# Altium schematic symbol library EMG_DRL_Controlled.SchLib: 231 symbols (part 1 of 4)
Pins are listed as number, name and electrical type; pins without a type are passive.

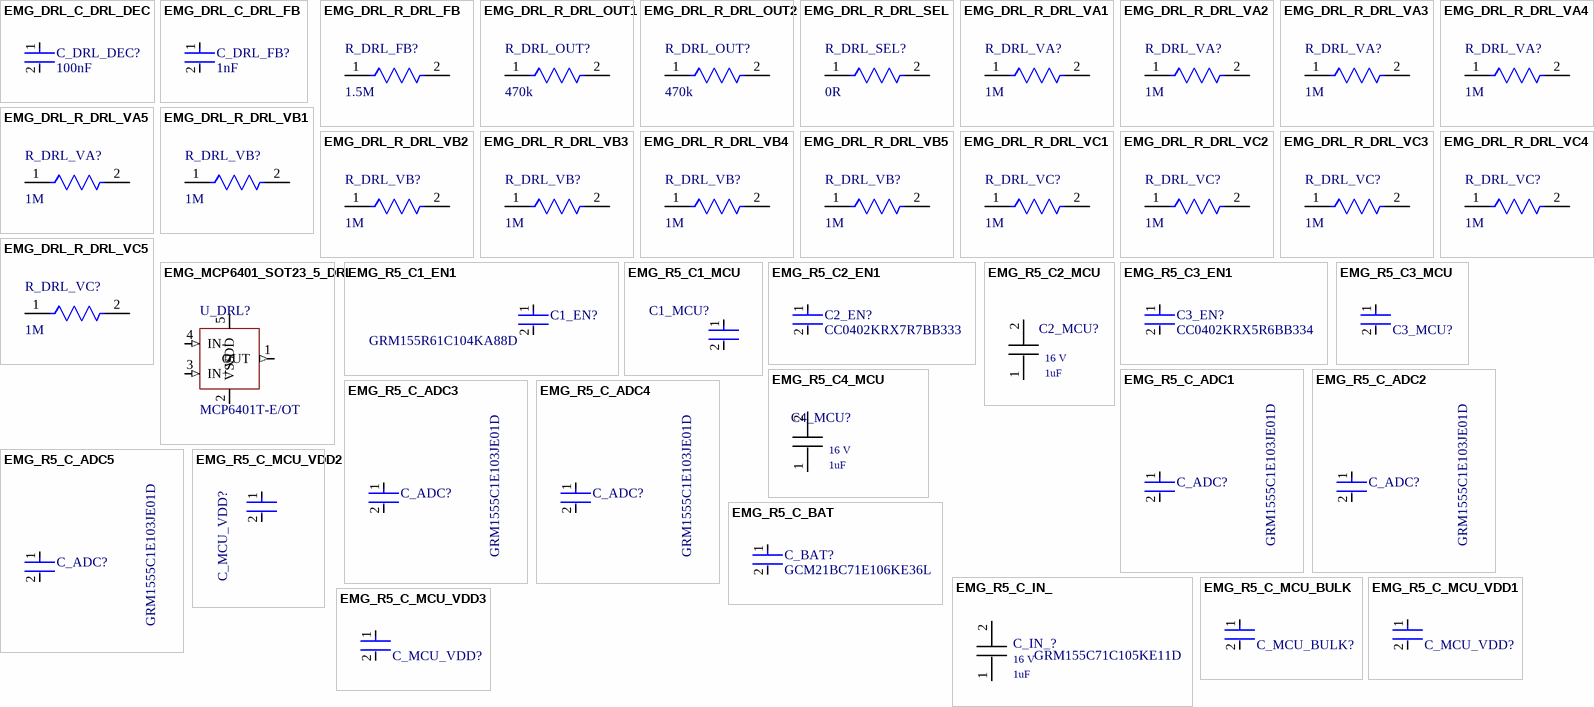
[diagram p0: symbols EMG_DRL_C_DRL_DEC to EMG_R5_C_MCU_VDD3]

## EMG_DRL_C_DRL_DEC
designator C_DRL_DEC?, comment 100nF
Optional DRL provision; not fitted in PROTO_1_REMOTE_NTC; Manufacturer: Murata Manufacturing; Manufacturer Part Number: GRM155R71C104KA88D; Population: DNP - optional DRL; Assembly Variant: PROTO_1_REMOTE_NTC: Not Fitted; Dielectric: X7R; Tolerance: 10%; Voltage Rating: 16V; Qualification: DNP prototype provision; populated loop and body-interface qualification required; Value: 100nF; Package: 0402 / 1005 metric
footprint EMG_DRL_C0402
pins: 1, 2

## EMG_DRL_C_DRL_FB
designator C_DRL_FB?, comment 1nF
Optional DRL provision; not fitted in PROTO_1_REMOTE_NTC; Manufacturer: Murata Manufacturing; Manufacturer Part Number: GRM1555C1H102JA01D; Population: DNP - optional DRL; Assembly Variant: PROTO_1_REMOTE_NTC: Not Fitted; Dielectric: C0G / NP0; Tolerance: 5%; Voltage Rating: 50V; Qualification: DNP prototype provision; populated loop and body-interface qualification required; Value: 1nF; Package: 0402 / 1005 metric
footprint EMG_DRL_C0402
pins: 1, 2

## EMG_DRL_R_DRL_FB
designator R_DRL_FB?, comment 1.5M
Optional DRL provision; not fitted in PROTO_1_REMOTE_NTC; Manufacturer: YAGEO; Manufacturer Part Number: RC0603FR-071M5L; Population: DNP - optional DRL; Assembly Variant: PROTO_1_REMOTE_NTC: Not Fitted; Tolerance: 1%; Power Rating: 0.1W at70C (resistors); Voltage Rating: 75V limiting element voltage (non-jumper); Qualification: DNP prototype provision; populated loop and body-interface qualification required; Value: 1.5M; Package: 0603 / 1608 metric
footprint EMG_DRL_R0603
pins: 1, 2

## EMG_DRL_R_DRL_OUT1
designator R_DRL_OUT?, comment 470k
Optional DRL provision; not fitted in PROTO_1_REMOTE_NTC; Manufacturer: Panasonic Industry; Manufacturer Part Number: ERJ3EKF4703V; Population: DNP - optional DRL; Assembly Variant: PROTO_1_REMOTE_NTC: Not Fitted; Tolerance: 1%; Power Rating: 0.1W at70C (resistors); Voltage Rating: 75V limiting element voltage (non-jumper); Qualification: DNP prototype provision; populated loop and body-interface qualification required; Value: 470k; Package: 0603 / 1608 metric
footprint EMG_DRL_R0603
pins: 1, 2

## EMG_DRL_R_DRL_OUT2
designator R_DRL_OUT?, comment 470k
Optional DRL provision; not fitted in PROTO_1_REMOTE_NTC; Manufacturer: Panasonic Industry; Manufacturer Part Number: ERJ3EKF4703V; Population: DNP - optional DRL; Assembly Variant: PROTO_1_REMOTE_NTC: Not Fitted; Tolerance: 1%; Power Rating: 0.1W at70C (resistors); Voltage Rating: 75V limiting element voltage (non-jumper); Qualification: DNP prototype provision; populated loop and body-interface qualification required; Value: 470k; Package: 0603 / 1608 metric
footprint EMG_DRL_R0603
pins: 1, 2

## EMG_DRL_R_DRL_SEL
designator R_DRL_SEL?, comment 0R
Optional DRL provision; not fitted in PROTO_1_REMOTE_NTC; Manufacturer: Panasonic Industry; Manufacturer Part Number: ERJ3GEY0R00V; Population: DNP - optional DRL; Assembly Variant: PROTO_1_REMOTE_NTC: Not Fitted; Tolerance: Jumper: 50mOhm maximum; Power Rating: 0.1W at70C (resistors); Voltage Rating: 75V limiting element voltage (non-jumper); Qualification: DNP prototype provision; populated loop and body-interface qualification required; Value: 0R; Package: 0603 / 1608 metric
footprint EMG_DRL_R0603
pins: 1, 2

## EMG_DRL_R_DRL_VA1
designator R_DRL_VA?, comment 1M
Optional DRL provision; not fitted in PROTO_1_REMOTE_NTC; Manufacturer: Panasonic Industry; Manufacturer Part Number: ERJ3EKF1004V; Population: DNP - optional DRL; Assembly Variant: PROTO_1_REMOTE_NTC: Not Fitted; Tolerance: 1%; Power Rating: 0.1W at70C (resistors); Voltage Rating: 75V limiting element voltage (non-jumper); Qualification: DNP prototype provision; populated loop and body-interface qualification required; Value: 1M; Package: 0603 / 1608 metric
footprint EMG_DRL_R0603
pins: 1, 2

## EMG_DRL_R_DRL_VA2
designator R_DRL_VA?, comment 1M
Optional DRL provision; not fitted in PROTO_1_REMOTE_NTC; Manufacturer: Panasonic Industry; Manufacturer Part Number: ERJ3EKF1004V; Population: DNP - optional DRL; Assembly Variant: PROTO_1_REMOTE_NTC: Not Fitted; Tolerance: 1%; Power Rating: 0.1W at70C (resistors); Voltage Rating: 75V limiting element voltage (non-jumper); Qualification: DNP prototype provision; populated loop and body-interface qualification required; Value: 1M; Package: 0603 / 1608 metric
footprint EMG_DRL_R0603
pins: 1, 2

## EMG_DRL_R_DRL_VA3
designator R_DRL_VA?, comment 1M
Optional DRL provision; not fitted in PROTO_1_REMOTE_NTC; Manufacturer: Panasonic Industry; Manufacturer Part Number: ERJ3EKF1004V; Population: DNP - optional DRL; Assembly Variant: PROTO_1_REMOTE_NTC: Not Fitted; Tolerance: 1%; Power Rating: 0.1W at70C (resistors); Voltage Rating: 75V limiting element voltage (non-jumper); Qualification: DNP prototype provision; populated loop and body-interface qualification required; Value: 1M; Package: 0603 / 1608 metric
footprint EMG_DRL_R0603
pins: 1, 2

## EMG_DRL_R_DRL_VA4
designator R_DRL_VA?, comment 1M
Optional DRL provision; not fitted in PROTO_1_REMOTE_NTC; Manufacturer: Panasonic Industry; Manufacturer Part Number: ERJ3EKF1004V; Population: DNP - optional DRL; Assembly Variant: PROTO_1_REMOTE_NTC: Not Fitted; Tolerance: 1%; Power Rating: 0.1W at70C (resistors); Voltage Rating: 75V limiting element voltage (non-jumper); Qualification: DNP prototype provision; populated loop and body-interface qualification required; Value: 1M; Package: 0603 / 1608 metric
footprint EMG_DRL_R0603
pins: 1, 2

## EMG_DRL_R_DRL_VA5
designator R_DRL_VA?, comment 1M
Optional DRL provision; not fitted in PROTO_1_REMOTE_NTC; Manufacturer: Panasonic Industry; Manufacturer Part Number: ERJ3EKF1004V; Population: DNP - optional DRL; Assembly Variant: PROTO_1_REMOTE_NTC: Not Fitted; Tolerance: 1%; Power Rating: 0.1W at70C (resistors); Voltage Rating: 75V limiting element voltage (non-jumper); Qualification: DNP prototype provision; populated loop and body-interface qualification required; Value: 1M; Package: 0603 / 1608 metric
footprint EMG_DRL_R0603
pins: 1, 2

## EMG_DRL_R_DRL_VB1
designator R_DRL_VB?, comment 1M
Optional DRL provision; not fitted in PROTO_1_REMOTE_NTC; Manufacturer: Panasonic Industry; Manufacturer Part Number: ERJ3EKF1004V; Population: DNP - optional DRL; Assembly Variant: PROTO_1_REMOTE_NTC: Not Fitted; Tolerance: 1%; Power Rating: 0.1W at70C (resistors); Voltage Rating: 75V limiting element voltage (non-jumper); Qualification: DNP prototype provision; populated loop and body-interface qualification required; Value: 1M; Package: 0603 / 1608 metric
footprint EMG_DRL_R0603
pins: 1, 2

## EMG_DRL_R_DRL_VB2
designator R_DRL_VB?, comment 1M
Optional DRL provision; not fitted in PROTO_1_REMOTE_NTC; Manufacturer: Panasonic Industry; Manufacturer Part Number: ERJ3EKF1004V; Population: DNP - optional DRL; Assembly Variant: PROTO_1_REMOTE_NTC: Not Fitted; Tolerance: 1%; Power Rating: 0.1W at70C (resistors); Voltage Rating: 75V limiting element voltage (non-jumper); Qualification: DNP prototype provision; populated loop and body-interface qualification required; Value: 1M; Package: 0603 / 1608 metric
footprint EMG_DRL_R0603
pins: 1, 2

## EMG_DRL_R_DRL_VB3
designator R_DRL_VB?, comment 1M
Optional DRL provision; not fitted in PROTO_1_REMOTE_NTC; Manufacturer: Panasonic Industry; Manufacturer Part Number: ERJ3EKF1004V; Population: DNP - optional DRL; Assembly Variant: PROTO_1_REMOTE_NTC: Not Fitted; Tolerance: 1%; Power Rating: 0.1W at70C (resistors); Voltage Rating: 75V limiting element voltage (non-jumper); Qualification: DNP prototype provision; populated loop and body-interface qualification required; Value: 1M; Package: 0603 / 1608 metric
footprint EMG_DRL_R0603
pins: 1, 2

## EMG_DRL_R_DRL_VB4
designator R_DRL_VB?, comment 1M
Optional DRL provision; not fitted in PROTO_1_REMOTE_NTC; Manufacturer: Panasonic Industry; Manufacturer Part Number: ERJ3EKF1004V; Population: DNP - optional DRL; Assembly Variant: PROTO_1_REMOTE_NTC: Not Fitted; Tolerance: 1%; Power Rating: 0.1W at70C (resistors); Voltage Rating: 75V limiting element voltage (non-jumper); Qualification: DNP prototype provision; populated loop and body-interface qualification required; Value: 1M; Package: 0603 / 1608 metric
footprint EMG_DRL_R0603
pins: 1, 2

## EMG_DRL_R_DRL_VB5
designator R_DRL_VB?, comment 1M
Optional DRL provision; not fitted in PROTO_1_REMOTE_NTC; Manufacturer: Panasonic Industry; Manufacturer Part Number: ERJ3EKF1004V; Population: DNP - optional DRL; Assembly Variant: PROTO_1_REMOTE_NTC: Not Fitted; Tolerance: 1%; Power Rating: 0.1W at70C (resistors); Voltage Rating: 75V limiting element voltage (non-jumper); Qualification: DNP prototype provision; populated loop and body-interface qualification required; Value: 1M; Package: 0603 / 1608 metric
footprint EMG_DRL_R0603
pins: 1, 2

## EMG_DRL_R_DRL_VC1
designator R_DRL_VC?, comment 1M
Optional DRL provision; not fitted in PROTO_1_REMOTE_NTC; Manufacturer: Panasonic Industry; Manufacturer Part Number: ERJ3EKF1004V; Population: DNP - optional DRL; Assembly Variant: PROTO_1_REMOTE_NTC: Not Fitted; Tolerance: 1%; Power Rating: 0.1W at70C (resistors); Voltage Rating: 75V limiting element voltage (non-jumper); Qualification: DNP prototype provision; populated loop and body-interface qualification required; Value: 1M; Package: 0603 / 1608 metric
footprint EMG_DRL_R0603
pins: 1, 2

## EMG_DRL_R_DRL_VC2
designator R_DRL_VC?, comment 1M
Optional DRL provision; not fitted in PROTO_1_REMOTE_NTC; Manufacturer: Panasonic Industry; Manufacturer Part Number: ERJ3EKF1004V; Population: DNP - optional DRL; Assembly Variant: PROTO_1_REMOTE_NTC: Not Fitted; Tolerance: 1%; Power Rating: 0.1W at70C (resistors); Voltage Rating: 75V limiting element voltage (non-jumper); Qualification: DNP prototype provision; populated loop and body-interface qualification required; Value: 1M; Package: 0603 / 1608 metric
footprint EMG_DRL_R0603
pins: 1, 2

## EMG_DRL_R_DRL_VC3
designator R_DRL_VC?, comment 1M
Optional DRL provision; not fitted in PROTO_1_REMOTE_NTC; Manufacturer: Panasonic Industry; Manufacturer Part Number: ERJ3EKF1004V; Population: DNP - optional DRL; Assembly Variant: PROTO_1_REMOTE_NTC: Not Fitted; Tolerance: 1%; Power Rating: 0.1W at70C (resistors); Voltage Rating: 75V limiting element voltage (non-jumper); Qualification: DNP prototype provision; populated loop and body-interface qualification required; Value: 1M; Package: 0603 / 1608 metric
footprint EMG_DRL_R0603
pins: 1, 2

## EMG_DRL_R_DRL_VC4
designator R_DRL_VC?, comment 1M
Optional DRL provision; not fitted in PROTO_1_REMOTE_NTC; Manufacturer: Panasonic Industry; Manufacturer Part Number: ERJ3EKF1004V; Population: DNP - optional DRL; Assembly Variant: PROTO_1_REMOTE_NTC: Not Fitted; Tolerance: 1%; Power Rating: 0.1W at70C (resistors); Voltage Rating: 75V limiting element voltage (non-jumper); Qualification: DNP prototype provision; populated loop and body-interface qualification required; Value: 1M; Package: 0603 / 1608 metric
footprint EMG_DRL_R0603
pins: 1, 2

## EMG_DRL_R_DRL_VC5
designator R_DRL_VC?, comment 1M
Optional DRL provision; not fitted in PROTO_1_REMOTE_NTC; Manufacturer: Panasonic Industry; Manufacturer Part Number: ERJ3EKF1004V; Population: DNP - optional DRL; Assembly Variant: PROTO_1_REMOTE_NTC: Not Fitted; Tolerance: 1%; Power Rating: 0.1W at70C (resistors); Voltage Rating: 75V limiting element voltage (non-jumper); Qualification: DNP prototype provision; populated loop and body-interface qualification required; Value: 1M; Package: 0603 / 1608 metric
footprint EMG_DRL_R0603
pins: 1, 2

## EMG_MCP6401_SOT23_5_DRL
designator U_DRL?, comment MCP6401T-E/OT
MCP6401 single operational amplifier, SOT-23-5; optional DRL, DNP; Manufacturer: Microchip Technology; Population: DNP - optional DRL; Assembly Variant: PROTO_1_REMOTE_NTC: Not Fitted; Manufacturer Part Number: MCP6401T-E/OT; Package: SOT-23-5 / OT
footprint EMG_MCP6401_SOT23_5
pins: 1 OUT (out), 2 VSS (power), 3 IN+ (in), 4 IN- (in), 5 VDD (power)

## EMG_R5_C1_EN1
designator C1_EN?, comment GRM155R61C104KA88D
CAP CER 0.1UF 16V X5R 0402; Tolerance: 10%; Capacitance: 100nF; Controlled Revision: R5 2026-09-16; project-local frozen symbol/footprint; Size: 0.5mm; Case Code (Imperial): 0402; Voltage: 16V; REACH SVHC: No SVHC; Packaging: Tape and Reel; Case/Package: 0402; Package Quantity: 1; Max Operating Temperature: 85°C; Voltage Rating (DC): 16V; Min Operating Temperature: -55°C; Construction: Flat; Mount: Surface Mount; Voltage Rating: 16V; Thickness: 0.022inch; Depth: 0.5mm; Termination: SMD/SMT; Length: 1mm; Height: 0.5mm; Series: GRM; Radiation Hardening: No; Width: 0.02inch; RoHS Compliant: Yes; Lead Free: Lead Free; Case Code (Metric): 1005; Dielectric: X5R
footprint FP-GRM155-0_05-IPC_C
pins: 1, 2

## EMG_R5_C1_MCU
designator C1_MCU?, comment GRM155R61C104KA88D  (value not drawn)
CAP CER 0.1UF 16V X5R 0402; Tolerance: 10%; Capacitance: 100nF; Controlled Revision: R5 2026-09-16; project-local frozen symbol/footprint; Size: 0.5mm; Case Code (Imperial): 0402; Voltage: 16V; REACH SVHC: No SVHC; Packaging: Tape and Reel; Case/Package: 0402; Package Quantity: 1; Max Operating Temperature: 85°C; Voltage Rating (DC): 16V; Min Operating Temperature: -55°C; Construction: Flat; Mount: Surface Mount; Voltage Rating: 16V; Thickness: 0.022inch; Depth: 0.5mm; Termination: SMD/SMT; Length: 1mm; Height: 0.5mm; Series: GRM; Radiation Hardening: No; Width: 0.02inch; RoHS Compliant: Yes; Lead Free: Lead Free; Case Code (Metric): 1005; Dielectric: X5R
footprint FP-GRM155-0_05-IPC_C
pins: 1, 2

## EMG_R5_C2_EN1
designator C2_EN?, comment CC0402KRX7R7BB333
CAP CER 0.033UF 16V X7R 0402; Manufacturer: YAGEO; Temperature Coefficient: 30ppm/°C; Material: Ceramic; Capacitance: 33 nF; Tolerance: 0.1; Value: 33 nF; Automotive Grade: NA; Controlled Revision: R5 2026-09-16; project-local frozen symbol/footprint; Height: 0.55mm; Footprint Url: http://www.yageo.com/exep/pages/download/literatures/UPY-C_GEN_24.pdf; Voltage Rating: 16 V; ComponentLink2URL: http://www.yageo.com/documents/recent/UPY-GP_NP0_16V-to-50V_16.pdf; Temperature Characteristic: X7R; Temperature Range High: +125°C; Package: CC0402; Digikey Description: CAP CER 0.033UF 16V X7R 0402; Device Class L3: Ceramic Capacitors; Device Class L1: Passive Components; Mouser Description: Multilayer Ceramic Capacitors MLCC - SMD/SMT 33nF 16V X7R 10%; Manufacturer Part Number: CC0402KRX7R7BB333; RoHS: TRUE; Octopart: https://octopart.com/cc0402krx7r7bb333-yageo-9289202; Temperature Range Low: -55°C; Temperature: -55°C to +125°C; Device Class L2: Capacitors; Category: Cap; Lead Free: Yes; Automotive: No; ComponentLink2Description: Datasheet; Ipc Land Pattern Name: CAPC10050X50
footprint FP-CC0402-MFG
pins: 1, 2

## EMG_R5_C2_MCU
designator C2_MCU?, comment MURATA_GRM155C71C105KE11D  (value not drawn)
Murata GRM155C71C105KE11D: 1 uF 16 V X7S +/-10%, 0402/1005 metric; Value: 1 uF; Controlled Revision: R5 2026-09-16; project-local frozen symbol/footprint; Voltage Rating: 16 V; SnapEDA_Link: https://www.snapeda.com/parts/GRM155C71C105KE11D/Murata/view-part/?ref=snap; Package: 0402 / 1005 metric; MF: Murata; MP: GRM155C71C105KE11D; Check_prices: https://www.snapeda.com/parts/GRM155C71C105KE11D/Murata/view-part/?ref=eda; Manufacturer: Murata; Manufacturer Part Number: GRM155C71C105KE11D; Capacitance: 1 uF; Dielectric: X7S; Tolerance: +/-10%
footprint *MURATA_GRM155C71C105KE11D_0
pins: 1, 2
text: 1uF

## EMG_R5_C3_EN1
designator C3_EN?, comment CC0402KRX5R6BB334
CAP CER 0.33UF 10V X5R 0402; Manufacturer: YAGEO; Automotive Grade: NA; Value: 330 nF; Temperature Coefficient: 30ppm/°C; Material: Ceramic; Tolerance: 0.1; Controlled Revision: R5 2026-09-16; project-local frozen symbol/footprint; ComponentLink2URL: http://www.yageo.com/documents/recent/UPY-GP_NP0_16V-to-50V_16.pdf; Device Class L2: Capacitors; Voltage Rating: 10 V; ComponentLink2Description: Datasheet; Package: CC0402; Device Class L3: Ceramic Capacitors; Digikey Description: CAP CER 0.33UF 10V X5R 0402; Device Class L1: Passive Components; Footprint Url: http://www.yageo.com/exep/pages/download/literatures/UPY-C_GEN_24.pdf; Temperature Characteristic: X5R; Octopart: https://octopart.com/cc0402krx5r6bb334-yageo-21548561; Automotive: No; Temperature: -55°C to +125°C; Lead Free: Yes; Temperature Range Low: -55°C; Height: 0.55mm; Ipc Land Pattern Name: CAPC10050X50; Category: Cap; Capacitance: 330 nF; Manufacturer Part Number: CC0402KRX5R6BB334; RoHS: TRUE; Mouser Description: 0402 330 nF 10 V ±10 % Tolerance X5R SMT Multilayer Ceramic Capacitor; Temperature Range High: +125°C
footprint FP-CC0402-MFG
pins: 1, 2

## EMG_R5_C3_MCU
designator C3_MCU?, comment GRM155R61C104KA88D  (value not drawn)
CAP CER 0.1UF 16V X5R 0402; Tolerance: 10%; Capacitance: 100nF; Controlled Revision: R5 2026-09-16; project-local frozen symbol/footprint; Size: 0.5mm; Case Code (Imperial): 0402; Voltage: 16V; REACH SVHC: No SVHC; Packaging: Tape and Reel; Case/Package: 0402; Package Quantity: 1; Max Operating Temperature: 85°C; Voltage Rating (DC): 16V; Min Operating Temperature: -55°C; Construction: Flat; Mount: Surface Mount; Voltage Rating: 16V; Thickness: 0.022inch; Depth: 0.5mm; Termination: SMD/SMT; Length: 1mm; Height: 0.5mm; Series: GRM; Radiation Hardening: No; Width: 0.02inch; RoHS Compliant: Yes; Lead Free: Lead Free; Case Code (Metric): 1005; Dielectric: X5R
footprint FP-GRM155-0_05-IPC_C
pins: 1, 2

## EMG_R5_C4_MCU
designator C4_MCU?, comment MURATA_GRM155C71C105KE11D  (value not drawn)
Murata GRM155C71C105KE11D: 1 uF 16 V X7S +/-10%, 0402/1005 metric; Value: 1 uF; Controlled Revision: R5 2026-09-16; project-local frozen symbol/footprint; Voltage Rating: 16 V; SnapEDA_Link: https://www.snapeda.com/parts/GRM155C71C105KE11D/Murata/view-part/?ref=snap; Package: 0402 / 1005 metric; MF: Murata; MP: GRM155C71C105KE11D; Check_prices: https://www.snapeda.com/parts/GRM155C71C105KE11D/Murata/view-part/?ref=eda; Manufacturer: Murata; Manufacturer Part Number: GRM155C71C105KE11D; Capacitance: 1 uF; Dielectric: X7S; Tolerance: +/-10%
footprint *MURATA_GRM155C71C105KE11D_0
pins: 1, 2
text: 1uF

## EMG_R5_C_ADC1
designator C_ADC?, comment GRM1555C1E103JE01D
Chip Multilayer Ceramic Capacitors for General Purpose, 0402, 10000pF, C0G, 30ppm/°C, 5%, 25V; Controlled Revision: R5 2026-09-16; project-local frozen symbol/footprint
footprint FP-GRM155-0_15-IPC_A
pins: 1, 2

## EMG_R5_C_ADC2
designator C_ADC?, comment GRM1555C1E103JE01D
Chip Multilayer Ceramic Capacitors for General Purpose, 0402, 10000pF, C0G, 30ppm/°C, 5%, 25V; Controlled Revision: R5 2026-09-16; project-local frozen symbol/footprint
footprint FP-GRM155-0_15-IPC_A
pins: 1, 2

## EMG_R5_C_ADC3
designator C_ADC?, comment GRM1555C1E103JE01D
Chip Multilayer Ceramic Capacitors for General Purpose, 0402, 10000pF, C0G, 30ppm/°C, 5%, 25V; Controlled Revision: R5 2026-09-16; project-local frozen symbol/footprint
footprint FP-GRM155-0_15-IPC_A
pins: 1, 2

## EMG_R5_C_ADC4
designator C_ADC?, comment GRM1555C1E103JE01D
Chip Multilayer Ceramic Capacitors for General Purpose, 0402, 10000pF, C0G, 30ppm/°C, 5%, 25V; Controlled Revision: R5 2026-09-16; project-local frozen symbol/footprint
footprint FP-GRM155-0_15-IPC_A
pins: 1, 2

## EMG_R5_C_ADC5
designator C_ADC?, comment GRM1555C1E103JE01D
Chip Multilayer Ceramic Capacitors for General Purpose, 0402, 10000pF, C0G, 30ppm/°C, 5%, 25V; Controlled Revision: R5 2026-09-16; project-local frozen symbol/footprint
footprint FP-GRM155-0_15-IPC_A
pins: 1, 2

## EMG_R5_C_BAT
designator C_BAT?, comment GCM21BC71E106KE36L
10 µF ±10% 25V Ceramic Capacitor X7S 0805 (2012 Metric); Controlled Revision: R5 2026-09-16; project-local frozen symbol/footprint
footprint FP-GCM21B-0_2-e0_2_0_7-MFG
pins: 1, 2

## EMG_R5_C_IN_
designator C_IN_?, comment GRM155C71C105KE11D
Murata GRM155C71C105KE11D: 1 uF 16 V X7S +/-10%, 0402/1005 metric; Value: 1 uF; Controlled Revision: R5 2026-09-16; project-local frozen symbol/footprint; Voltage Rating: 16 V; SnapEDA_Link: https://www.snapeda.com/parts/GRM155C71C105KE11D/Murata/view-part/?ref=snap; Package: 0402 / 1005 metric; MF: Murata; MP: GRM155C71C105KE11D; Check_prices: https://www.snapeda.com/parts/GRM155C71C105KE11D/Murata/view-part/?ref=eda; Manufacturer: Murata; Manufacturer Part Number: GRM155C71C105KE11D; Capacitance: 1 uF; Dielectric: X7S; Tolerance: +/-10%
footprint *MURATA_GRM155C71C105KE11D_0
pins: 1, 2
text: 1uF

## EMG_R5_C_MCU_BULK
designator C_MCU_BULK?, comment GCM21BC71E106KE36L  (value not drawn)
10 µF ±10% 25V Ceramic Capacitor X7S 0805 (2012 Metric); Controlled Revision: R5 2026-09-16; project-local frozen symbol/footprint
footprint FP-GCM21B-0_2-e0_2_0_7-MFG
pins: 1, 2

## EMG_R5_C_MCU_VDD1
designator C_MCU_VDD?, comment GRM155R61C104KA88D  (value not drawn)
CAP CER 0.1UF 16V X5R 0402; Tolerance: 10%; Capacitance: 100nF; Controlled Revision: R5 2026-09-16; project-local frozen symbol/footprint; Size: 0.5mm; Case Code (Imperial): 0402; Voltage: 16V; REACH SVHC: No SVHC; Packaging: Tape and Reel; Case/Package: 0402; Package Quantity: 1; Max Operating Temperature: 85°C; Voltage Rating (DC): 16V; Min Operating Temperature: -55°C; Construction: Flat; Mount: Surface Mount; Voltage Rating: 16V; Thickness: 0.022inch; Depth: 0.5mm; Termination: SMD/SMT; Length: 1mm; Height: 0.5mm; Series: GRM; Radiation Hardening: No; Width: 0.02inch; RoHS Compliant: Yes; Lead Free: Lead Free; Case Code (Metric): 1005; Dielectric: X5R
footprint FP-GRM155-0_05-IPC_C
pins: 1, 2

## EMG_R5_C_MCU_VDD2
designator C_MCU_VDD?, comment GRM155R61C104KA88D  (value not drawn)
CAP CER 0.1UF 16V X5R 0402; Tolerance: 10%; Capacitance: 100nF; Controlled Revision: R5 2026-09-16; project-local frozen symbol/footprint; Size: 0.5mm; Case Code (Imperial): 0402; Voltage: 16V; REACH SVHC: No SVHC; Packaging: Tape and Reel; Case/Package: 0402; Package Quantity: 1; Max Operating Temperature: 85°C; Voltage Rating (DC): 16V; Min Operating Temperature: -55°C; Construction: Flat; Mount: Surface Mount; Voltage Rating: 16V; Thickness: 0.022inch; Depth: 0.5mm; Termination: SMD/SMT; Length: 1mm; Height: 0.5mm; Series: GRM; Radiation Hardening: No; Width: 0.02inch; RoHS Compliant: Yes; Lead Free: Lead Free; Case Code (Metric): 1005; Dielectric: X5R
footprint FP-GRM155-0_05-IPC_C
pins: 1, 2

## EMG_R5_C_MCU_VDD3
designator C_MCU_VDD?, comment GRM155R61C104KA88D  (value not drawn)
CAP CER 0.1UF 16V X5R 0402; Tolerance: 10%; Capacitance: 100nF; Controlled Revision: R5 2026-09-16; project-local frozen symbol/footprint; Size: 0.5mm; Case Code (Imperial): 0402; Voltage: 16V; REACH SVHC: No SVHC; Packaging: Tape and Reel; Case/Package: 0402; Package Quantity: 1; Max Operating Temperature: 85°C; Voltage Rating (DC): 16V; Min Operating Temperature: -55°C; Construction: Flat; Mount: Surface Mount; Voltage Rating: 16V; Thickness: 0.022inch; Depth: 0.5mm; Termination: SMD/SMT; Length: 1mm; Height: 0.5mm; Series: GRM; Radiation Hardening: No; Width: 0.02inch; RoHS Compliant: Yes; Lead Free: Lead Free; Case Code (Metric): 1005; Dielectric: X5R
footprint FP-GRM155-0_05-IPC_C
pins: 1, 2

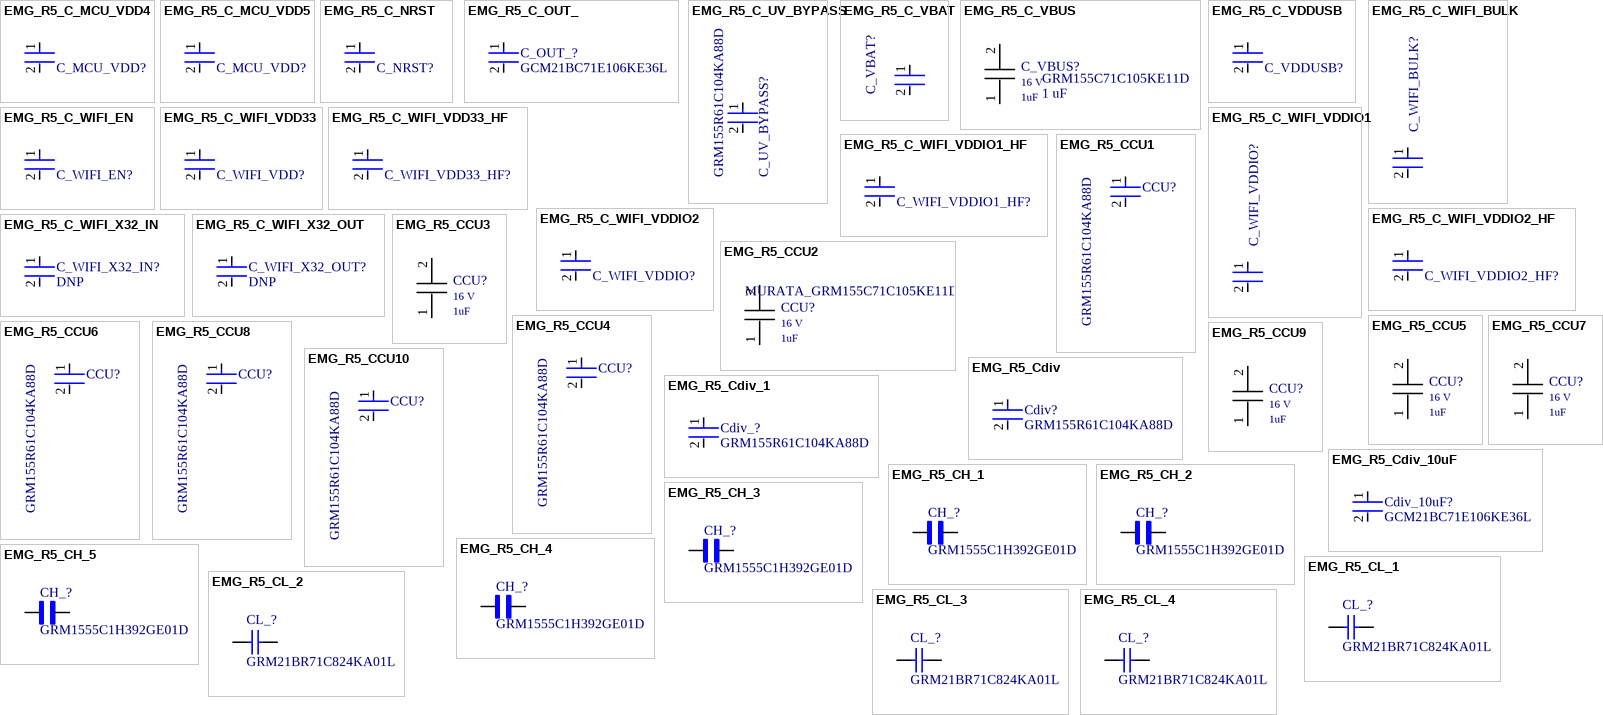
[diagram p1: symbols EMG_R5_C_MCU_VDD4 to EMG_R5_CL_4]

## EMG_R5_C_MCU_VDD4
designator C_MCU_VDD?, comment GRM155R61C104KA88D  (value not drawn)
CAP CER 0.1UF 16V X5R 0402; Tolerance: 10%; Capacitance: 100nF; Controlled Revision: R5 2026-09-16; project-local frozen symbol/footprint; Size: 0.5mm; Case Code (Imperial): 0402; Voltage: 16V; REACH SVHC: No SVHC; Packaging: Tape and Reel; Case/Package: 0402; Package Quantity: 1; Max Operating Temperature: 85°C; Voltage Rating (DC): 16V; Min Operating Temperature: -55°C; Construction: Flat; Mount: Surface Mount; Voltage Rating: 16V; Thickness: 0.022inch; Depth: 0.5mm; Termination: SMD/SMT; Length: 1mm; Height: 0.5mm; Series: GRM; Radiation Hardening: No; Width: 0.02inch; RoHS Compliant: Yes; Lead Free: Lead Free; Case Code (Metric): 1005; Dielectric: X5R
footprint FP-GRM155-0_05-IPC_C
pins: 1, 2

## EMG_R5_C_MCU_VDD5
designator C_MCU_VDD?, comment GRM155R61C104KA88D  (value not drawn)
CAP CER 0.1UF 16V X5R 0402; Tolerance: 10%; Capacitance: 100nF; Controlled Revision: R5 2026-09-16; project-local frozen symbol/footprint; Size: 0.5mm; Case Code (Imperial): 0402; Voltage: 16V; REACH SVHC: No SVHC; Packaging: Tape and Reel; Case/Package: 0402; Package Quantity: 1; Max Operating Temperature: 85°C; Voltage Rating (DC): 16V; Min Operating Temperature: -55°C; Construction: Flat; Mount: Surface Mount; Voltage Rating: 16V; Thickness: 0.022inch; Depth: 0.5mm; Termination: SMD/SMT; Length: 1mm; Height: 0.5mm; Series: GRM; Radiation Hardening: No; Width: 0.02inch; RoHS Compliant: Yes; Lead Free: Lead Free; Case Code (Metric): 1005; Dielectric: X5R
footprint FP-GRM155-0_05-IPC_C
pins: 1, 2

## EMG_R5_C_NRST
designator C_NRST?, comment GRM155R61C104KA88D  (value not drawn)
CAP CER 0.1UF 16V X5R 0402; Tolerance: 10%; Capacitance: 100nF; Controlled Revision: R5 2026-09-16; project-local frozen symbol/footprint; Size: 0.5mm; Case Code (Imperial): 0402; Voltage: 16V; REACH SVHC: No SVHC; Packaging: Tape and Reel; Case/Package: 0402; Package Quantity: 1; Max Operating Temperature: 85°C; Voltage Rating (DC): 16V; Min Operating Temperature: -55°C; Construction: Flat; Mount: Surface Mount; Voltage Rating: 16V; Thickness: 0.022inch; Depth: 0.5mm; Termination: SMD/SMT; Length: 1mm; Height: 0.5mm; Series: GRM; Radiation Hardening: No; Width: 0.02inch; RoHS Compliant: Yes; Lead Free: Lead Free; Case Code (Metric): 1005; Dielectric: X5R
footprint FP-GRM155-0_05-IPC_C
pins: 1, 2

## EMG_R5_C_OUT_
designator C_OUT_?, comment GCM21BC71E106KE36L
10 µF ±10% 25V Ceramic Capacitor X7S 0805 (2012 Metric); Controlled Revision: R5 2026-09-16; project-local frozen symbol/footprint
footprint FP-GCM21B-0_2-e0_2_0_7-MFG
pins: 1, 2

## EMG_R5_C_UV_BYPASS
designator C_UV_BYPASS?, comment GRM155R61C104KA88D
CAP CER 0.1UF 16V X5R 0402; Tolerance: 10%; Capacitance: 100nF; Controlled Revision: R5 2026-09-16; project-local frozen symbol/footprint; Size: 0.5mm; Case Code (Imperial): 0402; Voltage: 16V; REACH SVHC: No SVHC; Packaging: Tape and Reel; Case/Package: 0402; Package Quantity: 1; Max Operating Temperature: 85°C; Voltage Rating (DC): 16V; Min Operating Temperature: -55°C; Construction: Flat; Mount: Surface Mount; Voltage Rating: 16V; Thickness: 0.022inch; Depth: 0.5mm; Termination: SMD/SMT; Length: 1mm; Height: 0.5mm; Series: GRM; Radiation Hardening: No; Width: 0.02inch; RoHS Compliant: Yes; Lead Free: Lead Free; Case Code (Metric): 1005; Dielectric: X5R
footprint FP-GRM155-0_05-IPC_C
pins: 1, 2

## EMG_R5_C_VBAT
designator C_VBAT?, comment GRM155R61C104KA88D  (value not drawn)
CAP CER 0.1UF 16V X5R 0402; Tolerance: 10%; Capacitance: 100nF; Controlled Revision: R5 2026-09-16; project-local frozen symbol/footprint; Size: 0.5mm; Case Code (Imperial): 0402; Voltage: 16V; REACH SVHC: No SVHC; Packaging: Tape and Reel; Case/Package: 0402; Package Quantity: 1; Max Operating Temperature: 85°C; Voltage Rating (DC): 16V; Min Operating Temperature: -55°C; Construction: Flat; Mount: Surface Mount; Voltage Rating: 16V; Thickness: 0.022inch; Depth: 0.5mm; Termination: SMD/SMT; Length: 1mm; Height: 0.5mm; Series: GRM; Radiation Hardening: No; Width: 0.02inch; RoHS Compliant: Yes; Lead Free: Lead Free; Case Code (Metric): 1005; Dielectric: X5R
footprint FP-GRM155-0_05-IPC_C
pins: 1, 2

## EMG_R5_C_VBUS
designator C_VBUS?, comment GRM155C71C105KE11D  value 1 uF
Murata GRM155C71C105KE11D: 1 uF 16 V X7S +/-10%, 0402/1005 metric; Controlled Revision: R5 2026-09-16; project-local frozen symbol/footprint; Voltage Rating: 16 V; SnapEDA_Link: https://www.snapeda.com/parts/GRM155C71C105KE11D/Murata/view-part/?ref=snap; Package: 0402 / 1005 metric; MF: Murata; MP: GRM155C71C105KE11D; Check_prices: https://www.snapeda.com/parts/GRM155C71C105KE11D/Murata/view-part/?ref=eda; Manufacturer: Murata; Manufacturer Part Number: GRM155C71C105KE11D; Capacitance: 1 uF; Dielectric: X7S; Tolerance: +/-10%
footprint *MURATA_GRM155C71C105KE11D_0
pins: 1, 2
text: 1uF

## EMG_R5_C_VDDUSB
designator C_VDDUSB?, comment GRM155R61C104KA88D  (value not drawn)
CAP CER 0.1UF 16V X5R 0402; Tolerance: 10%; Capacitance: 100nF; Controlled Revision: R5 2026-09-16; project-local frozen symbol/footprint; Size: 0.5mm; Case Code (Imperial): 0402; Voltage: 16V; REACH SVHC: No SVHC; Packaging: Tape and Reel; Case/Package: 0402; Package Quantity: 1; Max Operating Temperature: 85°C; Voltage Rating (DC): 16V; Min Operating Temperature: -55°C; Construction: Flat; Mount: Surface Mount; Voltage Rating: 16V; Thickness: 0.022inch; Depth: 0.5mm; Termination: SMD/SMT; Length: 1mm; Height: 0.5mm; Series: GRM; Radiation Hardening: No; Width: 0.02inch; RoHS Compliant: Yes; Lead Free: Lead Free; Case Code (Metric): 1005; Dielectric: X5R
footprint FP-GRM155-0_05-IPC_C
pins: 1, 2

## EMG_R5_C_WIFI_BULK
designator C_WIFI_BULK?, comment GRM219R60J476ME44D  (value not drawn)
Chip Multilayer Ceramic Capacitors for General Purpose, 0805, 47uF, X5R, 15%, 20%, 6.3V; Assembly PROTO_1: Not Fitted; Release Note: Optional 47 uF radio bulk; retained footprint, initial prototype DNP; Controlled Revision: R5 2026-09-16; project-local frozen symbol/footprint; Assembly PROTO_1_REMOTE_NTC: Not Fitted; Case Code (Metric): 2012; Voltage Rating: 6.3V; Case Code (Imperial): 0805; Max Operating Temperature: 85°C; Width: 0.049inch; Length: 0.079inch; Min Operating Temperature: -55°C; Mount: Surface Mount; Packaging: Tape and Reel; Case/Package: 0805; Thickness: 0.037inch; Capacitance: 47uF; Tolerance: 20%
footprint FP-GRM219-0_2-0_1-IPC_A
pins: 1, 2

## EMG_R5_C_WIFI_EN
designator C_WIFI_EN?, comment GRM155R61C104KA88D  (value not drawn)
CAP CER 0.1UF 16V X5R 0402; Tolerance: 10%; Capacitance: 100nF; Controlled Revision: R5 2026-09-16; project-local frozen symbol/footprint; Size: 0.5mm; Case Code (Imperial): 0402; Voltage: 16V; REACH SVHC: No SVHC; Packaging: Tape and Reel; Case/Package: 0402; Package Quantity: 1; Max Operating Temperature: 85°C; Voltage Rating (DC): 16V; Min Operating Temperature: -55°C; Construction: Flat; Mount: Surface Mount; Voltage Rating: 16V; Thickness: 0.022inch; Depth: 0.5mm; Termination: SMD/SMT; Length: 1mm; Height: 0.5mm; Series: GRM; Radiation Hardening: No; Width: 0.02inch; RoHS Compliant: Yes; Lead Free: Lead Free; Case Code (Metric): 1005; Dielectric: X5R
footprint FP-GRM155-0_05-IPC_C
pins: 1, 2

## EMG_R5_C_WIFI_VDD33
designator C_WIFI_VDD?, comment GCM21BC71E106KE36L  (value not drawn)
10 µF ±10% 25V Ceramic Capacitor X7S 0805 (2012 Metric); Controlled Revision: R5 2026-09-16; project-local frozen symbol/footprint
footprint FP-GCM21B-0_2-e0_2_0_7-MFG
pins: 1, 2

## EMG_R5_C_WIFI_VDD33_HF
designator C_WIFI_VDD33_HF?, comment GRM155R61C104KA88D  (value not drawn)
CAP CER 0.1UF 16V X5R 0402; Tolerance: 10%; Capacitance: 100nF; Controlled Revision: R5 2026-09-16; project-local frozen symbol/footprint; Size: 0.5mm; Case Code (Imperial): 0402; Voltage: 16V; REACH SVHC: No SVHC; Packaging: Tape and Reel; Case/Package: 0402; Package Quantity: 1; Max Operating Temperature: 85°C; Voltage Rating (DC): 16V; Min Operating Temperature: -55°C; Construction: Flat; Mount: Surface Mount; Voltage Rating: 16V; Thickness: 0.022inch; Depth: 0.5mm; Termination: SMD/SMT; Length: 1mm; Height: 0.5mm; Series: GRM; Radiation Hardening: No; Width: 0.02inch; RoHS Compliant: Yes; Lead Free: Lead Free; Case Code (Metric): 1005; Dielectric: X5R
footprint FP-GRM155-0_05-MFG
pins: 1, 2

## EMG_R5_C_WIFI_VDDIO1
designator C_WIFI_VDDIO?, comment GCM21BC71E106KE36L  (value not drawn)
10 µF ±10% 25V Ceramic Capacitor X7S 0805 (2012 Metric); Controlled Revision: R5 2026-09-16; project-local frozen symbol/footprint
footprint FP-GCM21B-0_2-e0_2_0_7-MFG
pins: 1, 2

## EMG_R5_C_WIFI_VDDIO1_HF
designator C_WIFI_VDDIO1_HF?, comment GRM155R61C104KA88D  (value not drawn)
CAP CER 0.1UF 16V X5R 0402; Tolerance: 10%; Capacitance: 100nF; Controlled Revision: R5 2026-09-16; project-local frozen symbol/footprint; Size: 0.5mm; Case Code (Imperial): 0402; Voltage: 16V; REACH SVHC: No SVHC; Packaging: Tape and Reel; Case/Package: 0402; Package Quantity: 1; Max Operating Temperature: 85°C; Voltage Rating (DC): 16V; Min Operating Temperature: -55°C; Construction: Flat; Mount: Surface Mount; Voltage Rating: 16V; Thickness: 0.022inch; Depth: 0.5mm; Termination: SMD/SMT; Length: 1mm; Height: 0.5mm; Series: GRM; Radiation Hardening: No; Width: 0.02inch; RoHS Compliant: Yes; Lead Free: Lead Free; Case Code (Metric): 1005; Dielectric: X5R
footprint FP-GRM155-0_05-MFG
pins: 1, 2

## EMG_R5_C_WIFI_VDDIO2
designator C_WIFI_VDDIO?, comment GCM21BC71E106KE36L  (value not drawn)
10 µF ±10% 25V Ceramic Capacitor X7S 0805 (2012 Metric); Controlled Revision: R5 2026-09-16; project-local frozen symbol/footprint
footprint FP-GCM21B-0_2-e0_2_0_7-MFG
pins: 1, 2

## EMG_R5_C_WIFI_VDDIO2_HF
designator C_WIFI_VDDIO2_HF?, comment GRM155R61C104KA88D  (value not drawn)
CAP CER 0.1UF 16V X5R 0402; Tolerance: 10%; Capacitance: 100nF; Controlled Revision: R5 2026-09-16; project-local frozen symbol/footprint; Size: 0.5mm; Case Code (Imperial): 0402; Voltage: 16V; REACH SVHC: No SVHC; Packaging: Tape and Reel; Case/Package: 0402; Package Quantity: 1; Max Operating Temperature: 85°C; Voltage Rating (DC): 16V; Min Operating Temperature: -55°C; Construction: Flat; Mount: Surface Mount; Voltage Rating: 16V; Thickness: 0.022inch; Depth: 0.5mm; Termination: SMD/SMT; Length: 1mm; Height: 0.5mm; Series: GRM; Radiation Hardening: No; Width: 0.02inch; RoHS Compliant: Yes; Lead Free: Lead Free; Case Code (Metric): 1005; Dielectric: X5R
footprint FP-GRM155-0_05-MFG
pins: 1, 2

## EMG_R5_C_WIFI_X32_IN
designator C_WIFI_X32_IN?, comment DNP
DNP - 32 kHz crystal tuning capacitor; no fitted value or MPN; retain 0402 footprint; Value: DNP - tuning; Assembly PROTO_1: Not Fitted; Release Note: No fitted capacitance or MPN. Qualify pF tuning if required; never fit copied 100 nF.; Controlled Revision: R5 2026-09-16; project-local frozen symbol/footprint; Assembly PROTO_1_REMOTE_NTC: Not Fitted; Package: 0402 / 1005 metric
footprint FP-GRM155-0_05-IPC_C
pins: 1, 2

## EMG_R5_C_WIFI_X32_OUT
designator C_WIFI_X32_OUT?, comment DNP
DNP - 32 kHz crystal tuning capacitor; no fitted value or MPN; retain 0402 footprint; Value: DNP - tuning; Assembly PROTO_1: Not Fitted; Release Note: No fitted capacitance or MPN. Qualify pF tuning if required; never fit copied 100 nF.; Controlled Revision: R5 2026-09-16; project-local frozen symbol/footprint; Assembly PROTO_1_REMOTE_NTC: Not Fitted; Package: 0402 / 1005 metric
footprint FP-GRM155-0_05-IPC_C
pins: 1, 2

## EMG_R5_CCU1
designator CCU?, comment GRM155R61C104KA88D
CAP CER 0.1UF 16V X5R 0402; Tolerance: 10%; Capacitance: 100nF; Controlled Revision: R5 2026-09-16; project-local frozen symbol/footprint; Size: 0.5mm; Case Code (Imperial): 0402; Voltage: 16V; REACH SVHC: No SVHC; Packaging: Tape and Reel; Case/Package: 0402; Package Quantity: 1; Max Operating Temperature: 85°C; Voltage Rating (DC): 16V; Min Operating Temperature: -55°C; Construction: Flat; Mount: Surface Mount; Voltage Rating: 16V; Thickness: 0.022inch; Depth: 0.5mm; Termination: SMD/SMT; Length: 1mm; Height: 0.5mm; Series: GRM; Radiation Hardening: No; Width: 0.02inch; RoHS Compliant: Yes; Lead Free: Lead Free; Case Code (Metric): 1005; Dielectric: X5R
footprint FP-GRM155-0_05-IPC_C
pins: 1, 2

## EMG_R5_CCU2
designator CCU?, comment MURATA_GRM155C71C105KE11D
Murata GRM155C71C105KE11D: 1 uF 16 V X7S +/-10%, 0402/1005 metric; Value: 1 uF; Controlled Revision: R5 2026-09-16; project-local frozen symbol/footprint; Voltage Rating: 16 V; SnapEDA_Link: https://www.snapeda.com/parts/GRM155C71C105KE11D/Murata/view-part/?ref=snap; Package: 0402 / 1005 metric; MF: Murata; MP: GRM155C71C105KE11D; Check_prices: https://www.snapeda.com/parts/GRM155C71C105KE11D/Murata/view-part/?ref=eda; Manufacturer: Murata; Manufacturer Part Number: GRM155C71C105KE11D; Capacitance: 1 uF; Dielectric: X7S; Tolerance: +/-10%
footprint *MURATA_GRM155C71C105KE11D_0
pins: 1, 2
text: 1uF

## EMG_R5_CCU3
designator CCU?, comment MURATA_GRM155C71C105KE11D  (value not drawn)
Murata GRM155C71C105KE11D: 1 uF 16 V X7S +/-10%, 0402/1005 metric; Value: 1 uF; Controlled Revision: R5 2026-09-16; project-local frozen symbol/footprint; Voltage Rating: 16 V; SnapEDA_Link: https://www.snapeda.com/parts/GRM155C71C105KE11D/Murata/view-part/?ref=snap; Package: 0402 / 1005 metric; MF: Murata; MP: GRM155C71C105KE11D; Check_prices: https://www.snapeda.com/parts/GRM155C71C105KE11D/Murata/view-part/?ref=eda; Manufacturer: Murata; Manufacturer Part Number: GRM155C71C105KE11D; Capacitance: 1 uF; Dielectric: X7S; Tolerance: +/-10%
footprint *MURATA_GRM155C71C105KE11D_0
pins: 1, 2
text: 1uF

## EMG_R5_CCU4
designator CCU?, comment GRM155R61C104KA88D
CAP CER 0.1UF 16V X5R 0402; Tolerance: 10%; Capacitance: 100nF; Controlled Revision: R5 2026-09-16; project-local frozen symbol/footprint; Size: 0.5mm; Case Code (Imperial): 0402; Voltage: 16V; REACH SVHC: No SVHC; Packaging: Tape and Reel; Case/Package: 0402; Package Quantity: 1; Max Operating Temperature: 85°C; Voltage Rating (DC): 16V; Min Operating Temperature: -55°C; Construction: Flat; Mount: Surface Mount; Voltage Rating: 16V; Thickness: 0.022inch; Depth: 0.5mm; Termination: SMD/SMT; Length: 1mm; Height: 0.5mm; Series: GRM; Radiation Hardening: No; Width: 0.02inch; RoHS Compliant: Yes; Lead Free: Lead Free; Case Code (Metric): 1005; Dielectric: X5R
footprint FP-GRM155-0_05-IPC_C
pins: 1, 2

## EMG_R5_CCU5
designator CCU?, comment MURATA_GRM155C71C105KE11D  (value not drawn)
Murata GRM155C71C105KE11D: 1 uF 16 V X7S +/-10%, 0402/1005 metric; Value: 1 uF; Controlled Revision: R5 2026-09-16; project-local frozen symbol/footprint; Voltage Rating: 16 V; SnapEDA_Link: https://www.snapeda.com/parts/GRM155C71C105KE11D/Murata/view-part/?ref=snap; Package: 0402 / 1005 metric; MF: Murata; MP: GRM155C71C105KE11D; Check_prices: https://www.snapeda.com/parts/GRM155C71C105KE11D/Murata/view-part/?ref=eda; Manufacturer: Murata; Manufacturer Part Number: GRM155C71C105KE11D; Capacitance: 1 uF; Dielectric: X7S; Tolerance: +/-10%
footprint *MURATA_GRM155C71C105KE11D_0
pins: 1, 2
text: 1uF

## EMG_R5_CCU6
designator CCU?, comment GRM155R61C104KA88D
CAP CER 0.1UF 16V X5R 0402; Tolerance: 10%; Capacitance: 100nF; Controlled Revision: R5 2026-09-16; project-local frozen symbol/footprint; Size: 0.5mm; Case Code (Imperial): 0402; Voltage: 16V; REACH SVHC: No SVHC; Packaging: Tape and Reel; Case/Package: 0402; Package Quantity: 1; Max Operating Temperature: 85°C; Voltage Rating (DC): 16V; Min Operating Temperature: -55°C; Construction: Flat; Mount: Surface Mount; Voltage Rating: 16V; Thickness: 0.022inch; Depth: 0.5mm; Termination: SMD/SMT; Length: 1mm; Height: 0.5mm; Series: GRM; Radiation Hardening: No; Width: 0.02inch; RoHS Compliant: Yes; Lead Free: Lead Free; Case Code (Metric): 1005; Dielectric: X5R
footprint FP-GRM155-0_05-IPC_C
pins: 1, 2

## EMG_R5_CCU7
designator CCU?, comment MURATA_GRM155C71C105KE11D  (value not drawn)
Murata GRM155C71C105KE11D: 1 uF 16 V X7S +/-10%, 0402/1005 metric; Value: 1 uF; Controlled Revision: R5 2026-09-16; project-local frozen symbol/footprint; Voltage Rating: 16 V; SnapEDA_Link: https://www.snapeda.com/parts/GRM155C71C105KE11D/Murata/view-part/?ref=snap; Package: 0402 / 1005 metric; MF: Murata; MP: GRM155C71C105KE11D; Check_prices: https://www.snapeda.com/parts/GRM155C71C105KE11D/Murata/view-part/?ref=eda; Manufacturer: Murata; Manufacturer Part Number: GRM155C71C105KE11D; Capacitance: 1 uF; Dielectric: X7S; Tolerance: +/-10%
footprint *MURATA_GRM155C71C105KE11D_0
pins: 1, 2
text: 1uF

## EMG_R5_CCU8
designator CCU?, comment GRM155R61C104KA88D
CAP CER 0.1UF 16V X5R 0402; Tolerance: 10%; Capacitance: 100nF; Controlled Revision: R5 2026-09-16; project-local frozen symbol/footprint; Size: 0.5mm; Case Code (Imperial): 0402; Voltage: 16V; REACH SVHC: No SVHC; Packaging: Tape and Reel; Case/Package: 0402; Package Quantity: 1; Max Operating Temperature: 85°C; Voltage Rating (DC): 16V; Min Operating Temperature: -55°C; Construction: Flat; Mount: Surface Mount; Voltage Rating: 16V; Thickness: 0.022inch; Depth: 0.5mm; Termination: SMD/SMT; Length: 1mm; Height: 0.5mm; Series: GRM; Radiation Hardening: No; Width: 0.02inch; RoHS Compliant: Yes; Lead Free: Lead Free; Case Code (Metric): 1005; Dielectric: X5R
footprint FP-GRM155-0_05-IPC_C
pins: 1, 2

## EMG_R5_CCU9
designator CCU?, comment MURATA_GRM155C71C105KE11D  (value not drawn)
Murata GRM155C71C105KE11D: 1 uF 16 V X7S +/-10%, 0402/1005 metric; Value: 1 uF; Controlled Revision: R5 2026-09-16; project-local frozen symbol/footprint; Voltage Rating: 16 V; SnapEDA_Link: https://www.snapeda.com/parts/GRM155C71C105KE11D/Murata/view-part/?ref=snap; Package: 0402 / 1005 metric; MF: Murata; MP: GRM155C71C105KE11D; Check_prices: https://www.snapeda.com/parts/GRM155C71C105KE11D/Murata/view-part/?ref=eda; Manufacturer: Murata; Manufacturer Part Number: GRM155C71C105KE11D; Capacitance: 1 uF; Dielectric: X7S; Tolerance: +/-10%
footprint *MURATA_GRM155C71C105KE11D_0
pins: 1, 2
text: 1uF

## EMG_R5_CCU10
designator CCU?, comment GRM155R61C104KA88D
CAP CER 0.1UF 16V X5R 0402; Tolerance: 10%; Capacitance: 100nF; Controlled Revision: R5 2026-09-16; project-local frozen symbol/footprint; Size: 0.5mm; Case Code (Imperial): 0402; Voltage: 16V; REACH SVHC: No SVHC; Packaging: Tape and Reel; Case/Package: 0402; Package Quantity: 1; Max Operating Temperature: 85°C; Voltage Rating (DC): 16V; Min Operating Temperature: -55°C; Construction: Flat; Mount: Surface Mount; Voltage Rating: 16V; Thickness: 0.022inch; Depth: 0.5mm; Termination: SMD/SMT; Length: 1mm; Height: 0.5mm; Series: GRM; Radiation Hardening: No; Width: 0.02inch; RoHS Compliant: Yes; Lead Free: Lead Free; Case Code (Metric): 1005; Dielectric: X5R
footprint FP-GRM155-0_05-IPC_C
pins: 1, 2

## EMG_R5_Cdiv
designator Cdiv?, comment GRM155R61C104KA88D
CAP CER 0.1UF 16V X5R 0402; Tolerance: 10%; Capacitance: 100nF; Controlled Revision: R5 2026-09-16; project-local frozen symbol/footprint; Size: 0.5mm; Case Code (Imperial): 0402; Voltage: 16V; REACH SVHC: No SVHC; Packaging: Tape and Reel; Case/Package: 0402; Package Quantity: 1; Max Operating Temperature: 85°C; Voltage Rating (DC): 16V; Min Operating Temperature: -55°C; Construction: Flat; Mount: Surface Mount; Voltage Rating: 16V; Thickness: 0.022inch; Depth: 0.5mm; Termination: SMD/SMT; Length: 1mm; Height: 0.5mm; Series: GRM; Radiation Hardening: No; Width: 0.02inch; RoHS Compliant: Yes; Lead Free: Lead Free; Case Code (Metric): 1005; Dielectric: X5R
footprint FP-GRM155-0_05-IPC_C
pins: 1, 2

## EMG_R5_Cdiv_1
designator Cdiv_?, comment GRM155R61C104KA88D
CAP CER 0.1UF 16V X5R 0402; Tolerance: 10%; Capacitance: 100nF; Controlled Revision: R5 2026-09-16; project-local frozen symbol/footprint; Size: 0.5mm; Case Code (Imperial): 0402; Voltage: 16V; REACH SVHC: No SVHC; Packaging: Tape and Reel; Case/Package: 0402; Package Quantity: 1; Max Operating Temperature: 85°C; Voltage Rating (DC): 16V; Min Operating Temperature: -55°C; Construction: Flat; Mount: Surface Mount; Voltage Rating: 16V; Thickness: 0.022inch; Depth: 0.5mm; Termination: SMD/SMT; Length: 1mm; Height: 0.5mm; Series: GRM; Radiation Hardening: No; Width: 0.02inch; RoHS Compliant: Yes; Lead Free: Lead Free; Case Code (Metric): 1005; Dielectric: X5R
footprint FP-GRM155-0_05-IPC_C
pins: 1, 2

## EMG_R5_Cdiv_10uF
designator Cdiv_10uF?, comment GCM21BC71E106KE36L
10 µF ±10% 25V Ceramic Capacitor X7S 0805 (2012 Metric); Controlled Revision: R5 2026-09-16; project-local frozen symbol/footprint
footprint FP-GCM21B-0_2-e0_2_0_7-MFG
pins: 1, 2

## EMG_R5_CH_1
designator CH_?, comment GRM1555C1H392GE01D
SMD capacitor C0G(EIA) with capacitance 3900pF Tol.2%. Rated voltage 50Vdc 125C; MF: Murata Electronics; Controlled Revision: R5 2026-09-16; project-local frozen symbol/footprint; Value: *; Package: 1005-2 Murata; SnapEDA_Link: https://www.snapeda.com/parts/GRM1555C1H392GE01D/Murata/view-part/?ref=snap; MP: GRM1555C1H392GE01D; Check_prices: https://www.snapeda.com/parts/GRM1555C1H392GE01D/Murata/view-part/?ref=eda
footprint CAPC1005X55N
pins: 1, 2

## EMG_R5_CH_2
designator CH_?, comment GRM1555C1H392GE01D
SMD capacitor C0G(EIA) with capacitance 3900pF Tol.2%. Rated voltage 50Vdc 125C; MF: Murata Electronics; Controlled Revision: R5 2026-09-16; project-local frozen symbol/footprint; Value: *; Package: 1005-2 Murata; SnapEDA_Link: https://www.snapeda.com/parts/GRM1555C1H392GE01D/Murata/view-part/?ref=snap; MP: GRM1555C1H392GE01D; Check_prices: https://www.snapeda.com/parts/GRM1555C1H392GE01D/Murata/view-part/?ref=eda
footprint CAPC1005X55N
pins: 1, 2

## EMG_R5_CH_3
designator CH_?, comment GRM1555C1H392GE01D
SMD capacitor C0G(EIA) with capacitance 3900pF Tol.2%. Rated voltage 50Vdc 125C; MF: Murata Electronics; Controlled Revision: R5 2026-09-16; project-local frozen symbol/footprint; Value: *; Package: 1005-2 Murata; SnapEDA_Link: https://www.snapeda.com/parts/GRM1555C1H392GE01D/Murata/view-part/?ref=snap; MP: GRM1555C1H392GE01D; Check_prices: https://www.snapeda.com/parts/GRM1555C1H392GE01D/Murata/view-part/?ref=eda
footprint CAPC1005X55N
pins: 1, 2

## EMG_R5_CH_4
designator CH_?, comment GRM1555C1H392GE01D
SMD capacitor C0G(EIA) with capacitance 3900pF Tol.2%. Rated voltage 50Vdc 125C; MF: Murata Electronics; Controlled Revision: R5 2026-09-16; project-local frozen symbol/footprint; Value: *; Package: 1005-2 Murata; SnapEDA_Link: https://www.snapeda.com/parts/GRM1555C1H392GE01D/Murata/view-part/?ref=snap; MP: GRM1555C1H392GE01D; Check_prices: https://www.snapeda.com/parts/GRM1555C1H392GE01D/Murata/view-part/?ref=eda
footprint CAPC1005X55N
pins: 1, 2

## EMG_R5_CH_5
designator CH_?, comment GRM1555C1H392GE01D
SMD capacitor C0G(EIA) with capacitance 3900pF Tol.2%. Rated voltage 50Vdc 125C; MF: Murata Electronics; Controlled Revision: R5 2026-09-16; project-local frozen symbol/footprint; Value: *; Package: 1005-2 Murata; SnapEDA_Link: https://www.snapeda.com/parts/GRM1555C1H392GE01D/Murata/view-part/?ref=snap; MP: GRM1555C1H392GE01D; Check_prices: https://www.snapeda.com/parts/GRM1555C1H392GE01D/Murata/view-part/?ref=eda
footprint CAPC1005X55N
pins: 1, 2

## EMG_R5_CL_1
designator CL_?, comment GRM21BR71C824KA01L
Manufacturer: Murata; Controlled Revision: R5 2026-09-16; project-local frozen symbol/footprint; Part Number: GRM21BR71C824KA01L
footprint CAPC2013X135X45ML10T25 (Chip Capacitor, 2-Leads, Body 2.00x1.25mm, IPC Low Density)
pins: 1, 2
1 alternate drawing of the same symbol

## EMG_R5_CL_2
designator CL_?, comment GRM21BR71C824KA01L
Manufacturer: Murata; Controlled Revision: R5 2026-09-16; project-local frozen symbol/footprint; Part Number: GRM21BR71C824KA01L
footprint CAPC2013X135X45ML10T25 (Chip Capacitor, 2-Leads, Body 2.00x1.25mm, IPC Low Density)
pins: 1, 2
1 alternate drawing of the same symbol

## EMG_R5_CL_3
designator CL_?, comment GRM21BR71C824KA01L
Manufacturer: Murata; Controlled Revision: R5 2026-09-16; project-local frozen symbol/footprint; Part Number: GRM21BR71C824KA01L
footprint CAPC2013X135X45ML10T25 (Chip Capacitor, 2-Leads, Body 2.00x1.25mm, IPC Low Density)
pins: 1, 2
1 alternate drawing of the same symbol

## EMG_R5_CL_4
designator CL_?, comment GRM21BR71C824KA01L
Manufacturer: Murata; Controlled Revision: R5 2026-09-16; project-local frozen symbol/footprint; Part Number: GRM21BR71C824KA01L
footprint CAPC2013X135X45ML10T25 (Chip Capacitor, 2-Leads, Body 2.00x1.25mm, IPC Low Density)
pins: 1, 2
1 alternate drawing of the same symbol

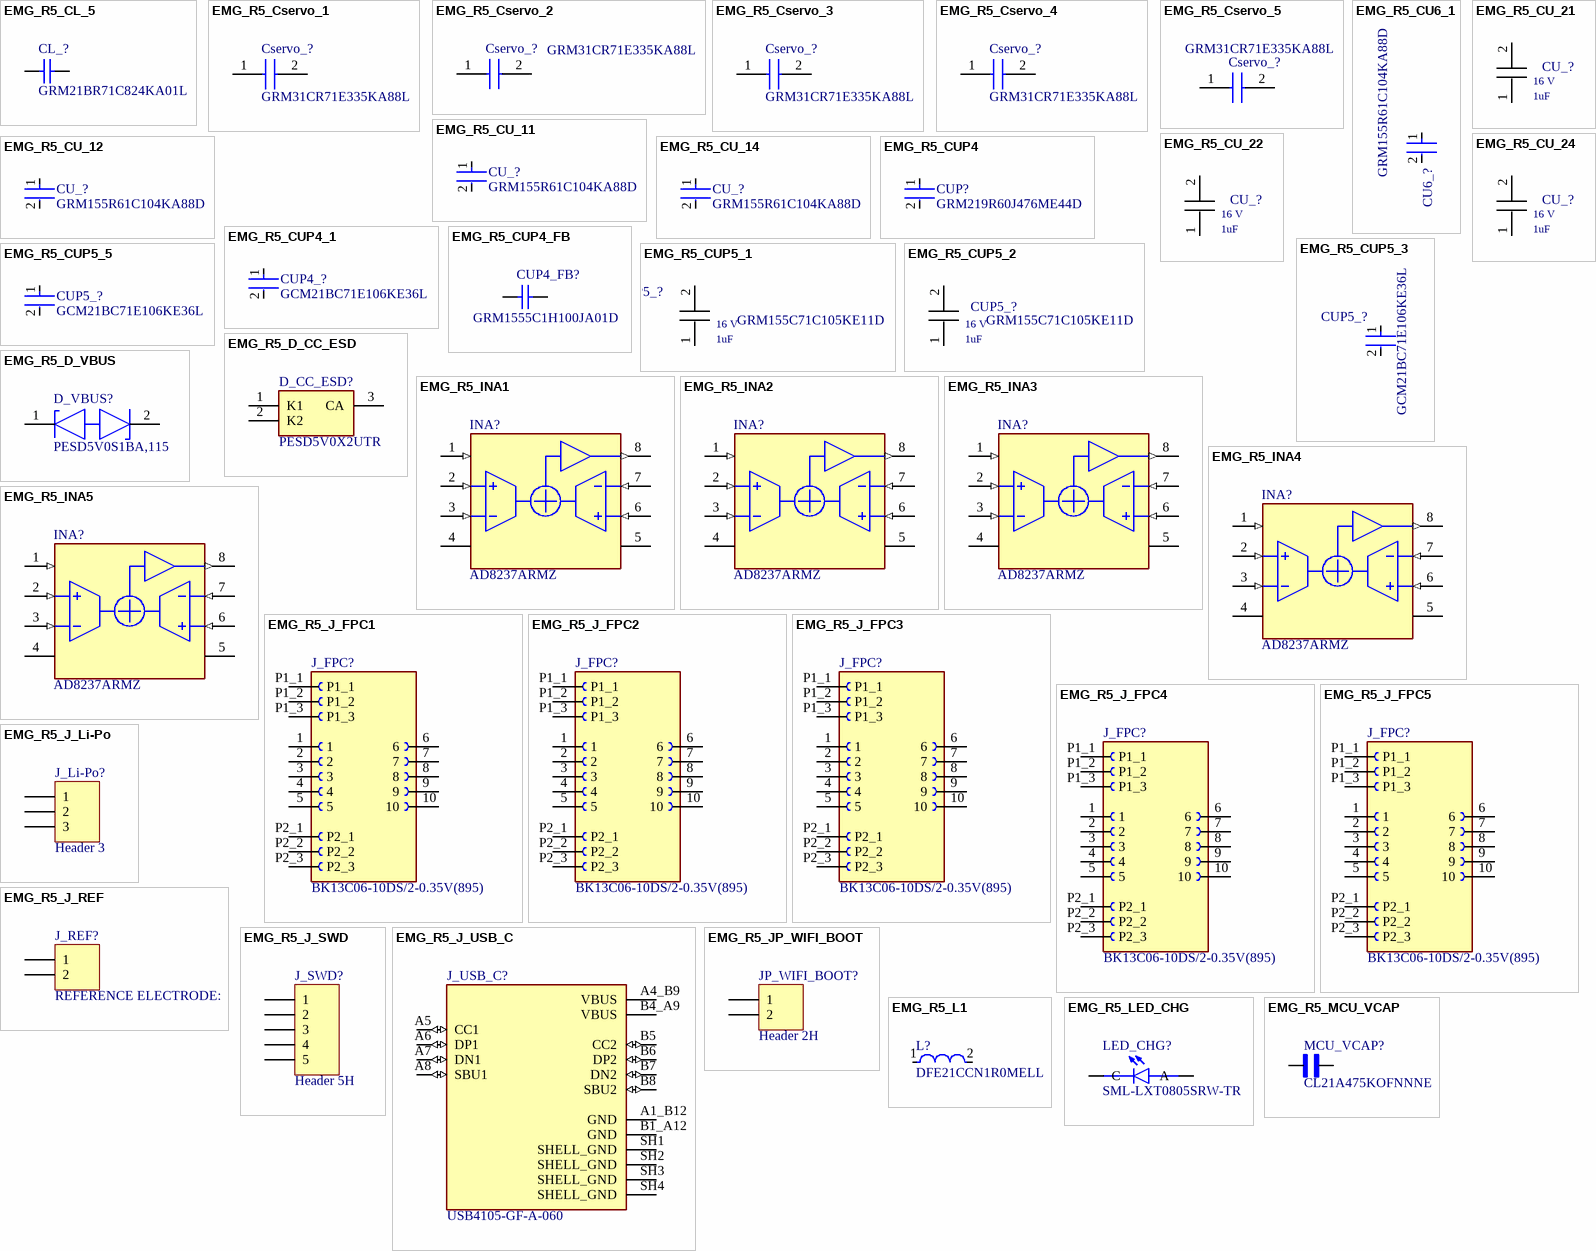
[diagram p2: symbols EMG_R5_CL_5 to EMG_R5_MCU_VCAP]

## EMG_R5_CL_5
designator CL_?, comment GRM21BR71C824KA01L
Manufacturer: Murata; Controlled Revision: R5 2026-09-16; project-local frozen symbol/footprint; Part Number: GRM21BR71C824KA01L
footprint CAPC2013X135X45ML10T25 (Chip Capacitor, 2-Leads, Body 2.00x1.25mm, IPC Low Density)
pins: 1, 2
1 alternate drawing of the same symbol

## EMG_R5_Cservo_1
designator Cservo_?, comment GRM31CR71E335KA88L
Capacitor; Manufacturer_Name: Murata Electronics; Manufacturer: Murata; Controlled Revision: R5 2026-09-16; project-local frozen symbol/footprint; Capacitance: 3.3 uF; Voltage Rating: 25 V; Dielectric: X7R; Tolerance: +/-10%; Datasheet Link: https://search.murata.co.jp/Ceramy/image/img/A01X/G101/ENG/GRM31CR71E335KA88-01.pdf; Height: 1.6 +/-0.2 mm; Manufacturer_Part_Number: GRM31CR71E335KA88L; Mouser Part Number: 81-GRM31CR71E335KA8L; Mouser Price/Stock: https://www.mouser.co.uk/ProductDetail/Murata-Electronics/GRM31CR71E335KA88L?qs=O9nxk9bDVAjJxWOahKXrZA%3D%3D; Arrow Part Number: GRM31CR71E335KA88L; Arrow Price/Stock: https://www.arrow.com/en/products/grm31cr71e335ka88l/murata-manufacturing?region=europe; Manufacturer Part Number: GRM31CR71E335KA88L; Package: 1206 / 3216 metric
footprint GRM31x
pins: 1, 2

## EMG_R5_Cservo_2
designator Cservo_?, comment GRM31CR71E335KA88L
Capacitor; Manufacturer_Name: Murata Electronics; Manufacturer: Murata; Controlled Revision: R5 2026-09-16; project-local frozen symbol/footprint; Capacitance: 3.3 uF; Voltage Rating: 25 V; Dielectric: X7R; Tolerance: +/-10%; Datasheet Link: https://search.murata.co.jp/Ceramy/image/img/A01X/G101/ENG/GRM31CR71E335KA88-01.pdf; Height: 1.6 +/-0.2 mm; Manufacturer_Part_Number: GRM31CR71E335KA88L; Mouser Part Number: 81-GRM31CR71E335KA8L; Mouser Price/Stock: https://www.mouser.co.uk/ProductDetail/Murata-Electronics/GRM31CR71E335KA88L?qs=O9nxk9bDVAjJxWOahKXrZA%3D%3D; Arrow Part Number: GRM31CR71E335KA88L; Arrow Price/Stock: https://www.arrow.com/en/products/grm31cr71e335ka88l/murata-manufacturing?region=europe; Manufacturer Part Number: GRM31CR71E335KA88L; Package: 1206 / 3216 metric
footprint GRM31x
pins: 1, 2